# Altium footprint library rf.PcbLib: 4 footprints
Each footprint in its own frame and in the unit in brackets; x right, y up, seen from the top. Pads: shape width x height; smd on the part's side, far side on the other; paste and mask are expansions set on the pad; w line width, h text height; cw(c..) or ccw(c..) is an arc to the next point about the centre after c.
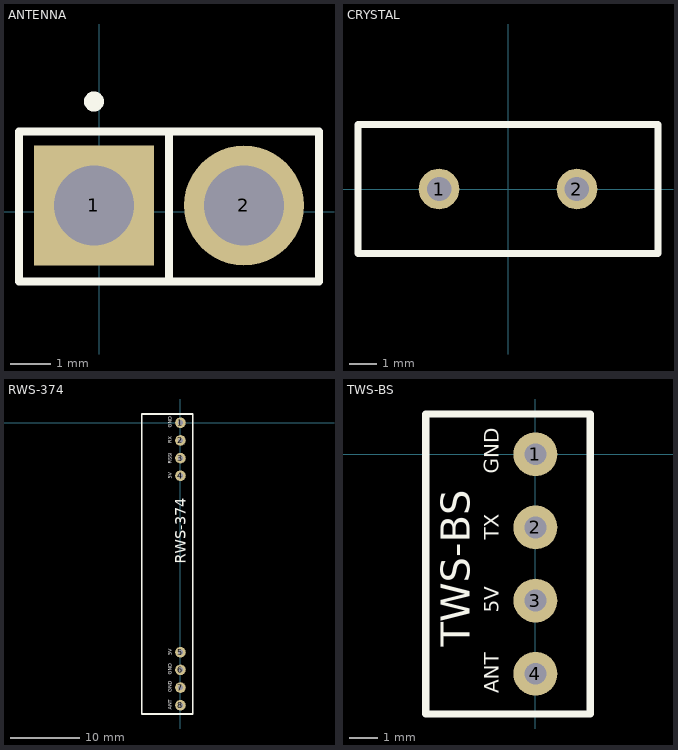
[diagram p0: the footprints below, top view; thin cyan lines are the x and y axes]

## ANTENNA [mm]
pads (2):
  rect 3x3 hole 2: 1(-0.127,0.152)
  round 3 hole 2: 2(3.623,0.152)
Top Overlay:
  circle w0.25: c-0.127,2.75 r0.125
  lines w0.2: 0.75,-1.75 1.75,-1.75 ; 0.771,-1.75 -2,-1.75 -2,2 1.273,2 ; 1.25,2 1.75,2 ; 1.75,-1.25 1.75,-1.75 ; 1.75,-1.248 1.75,2 ; 4.5,-1.75 5.5,-1.75 5.5,-1.25 ; 4.521,-1.75 1.75,-1.75 ; 5,2 5.5,2 5.5,-1.248 ; 5.023,2 1.75,2

## CRYSTAL [mm]
pads (2):
  round 1.5 hole 0.9: 1(-2.54,0) 2(2.54,0)
Top Overlay:
  lines w0.25: -5.525,-2.375 5.525,-2.375 5.525,2.375 -5.525,2.375 -5.525,-2.375

## RWS-374 [mil] "Receptor RF (RX)"
height 417.32
pads (8):
  round 60 hole 30: 1(0,0) 2(0,-100) 3(0,-200) 4(0,-300) 5(0,-1300) 6(0,-1400) 7(0,-1500) 8(0,-1600)
Top Overlay:
  lines w10: -220,-1650 -220,50 70,50 70,-1650 -220,-1650
  text "RWS-374" at 29.99,-799.94 h60
  text "GND" at -50,-26.66 h20
  text "RX" at -50,-116.66 h20
  text "RSSI" at -50,-233.32 h20
  text "5V" at -50,-316.66 h20
  text "GND" at -50,-1426.66 h20
  text "GND" at -50,-1526.66 h20
  text "ANT" at -50,-1626.66 h20
  text "5V" at -50,-1316.66 h20

## TWS-BS [mil] "Receptor RF (TX)"
height 520.08
pads (4):
  round 60 hole 30: 1(0,0) 2(0,-100) 3(0,-200) 4(0,-300)
Top Overlay:
  lines w10: -150,-355 0,-355 75,-355 75,55 0,55 -150,55 -150,-355
  text "GND" at -50,-26.66 h20
  text "TWS-BS" at -90,-263.3 h40
  text "5V" at -50,-216.66 h20
  text "TX" at -50,-116.66 h20
  text "ANT" at -50,-326.66 h20